# EAGLE library part MCH6444 (library 1zac)
N channel mosfet- 2.5A, 35V, 98mohm
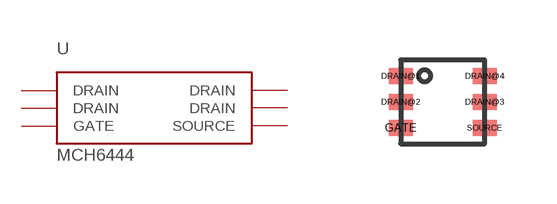
[diagram p3: symbol with the pads of SC-88-6; footprint SC-88-6]

Designator prefix -

## MCH6444 (MPN: MCH6444-TL-W)  [SC-88-6]
DRAIN@1  DRAIN
DRAIN@2  DRAIN
DRAIN@3  DRAIN
DRAIN@4  DRAIN
GATE  GATE
SOURCE  SOURCE

## Footprint SC-88-6 (pad centres in mm)
smd 0.6 x 0.4: DRAIN@1 -1.1,0.6; DRAIN@2 -1.1,-0.05; DRAIN@3 1,-0.05; DRAIN@4 1,0.6; GATE -1.1,-0.7; SOURCE 1,-0.7